# Altium schematic symbol library LAB1.SchLib: 4 symbols
Pins are listed as number, name and electrical type; pins without a type are passive.

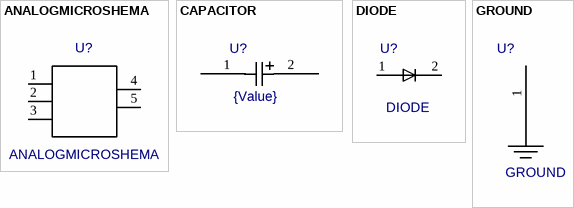
[diagram p0: symbols ANALOGMICROSHEMA to GROUND]

## ANALOGMICROSHEMA
designator U?
Value: *
footprint ANALOGMICROSHEMA
pins: 1, 2, 3, 4, 5

## CAPACITOR
designator U?  value {Value}  (hidden comment: *)
footprint CAPACITOR
pins: 1, 2

## DIODE
designator U?
Value: *
footprint DIODE
pins: 1 0, 2 0

## GROUND
designator U?
Value: *
pins: 1